# EAGLE library part 53175-1611 (library con-molex)
HEADER
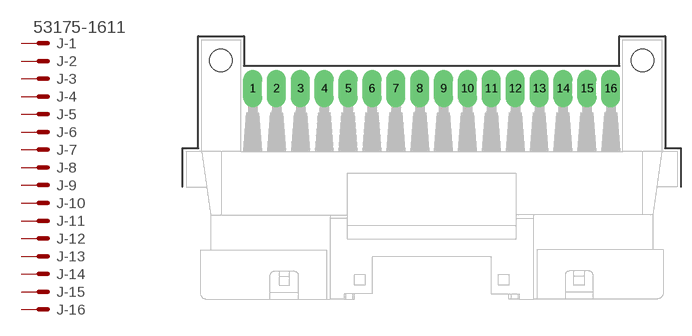
[diagram p146: symbol with the pads of 53175-1611; footprint 53175-1611]

Designator prefix J; gates -2=M -3=M -4=M -5=M -6=M -7=M -8=M -9=M -10=M -11=M -12=M -13=M -14=M -15=M -16=M -1=MV

## 53175-1611  [53175-1611]
1  -1:S  pas
2  -2:S  pas
3  -3:S  pas
4  -4:S  pas
5  -5:S  pas
6  -6:S  pas
7  -7:S  pas
8  -8:S  pas
9  -9:S  pas
10  -10:S  pas
11  -11:S  pas
12  -12:S  pas
13  -13:S  pas
14  -14:S  pas
15  -15:S  pas
16  -16:S  pas

## Footprint 53175-1611 (pad centres in mm)
6.8 MM WATER PROOF CONNECTOR
drill 1.8 long: 1 -25.5,0; 2 -22.1,0; 3 -18.7,0; 4 -15.3,0; 5 -11.9,0; 6 -8.5,0; 7 -5.1,0; 8 -1.7,0; 9 1.7,0; 10 5.1,0; 11 8.5,0; 12 11.9,0; 13 15.3,0; 14 18.7,0; 15 22.1,0; 16 25.5,0
hole 3.2 at -30,4
hole 3.2 at 30,4